# Altium integrated library NSC LDO.IntLib: 1202 symbols (part 27 of 27)
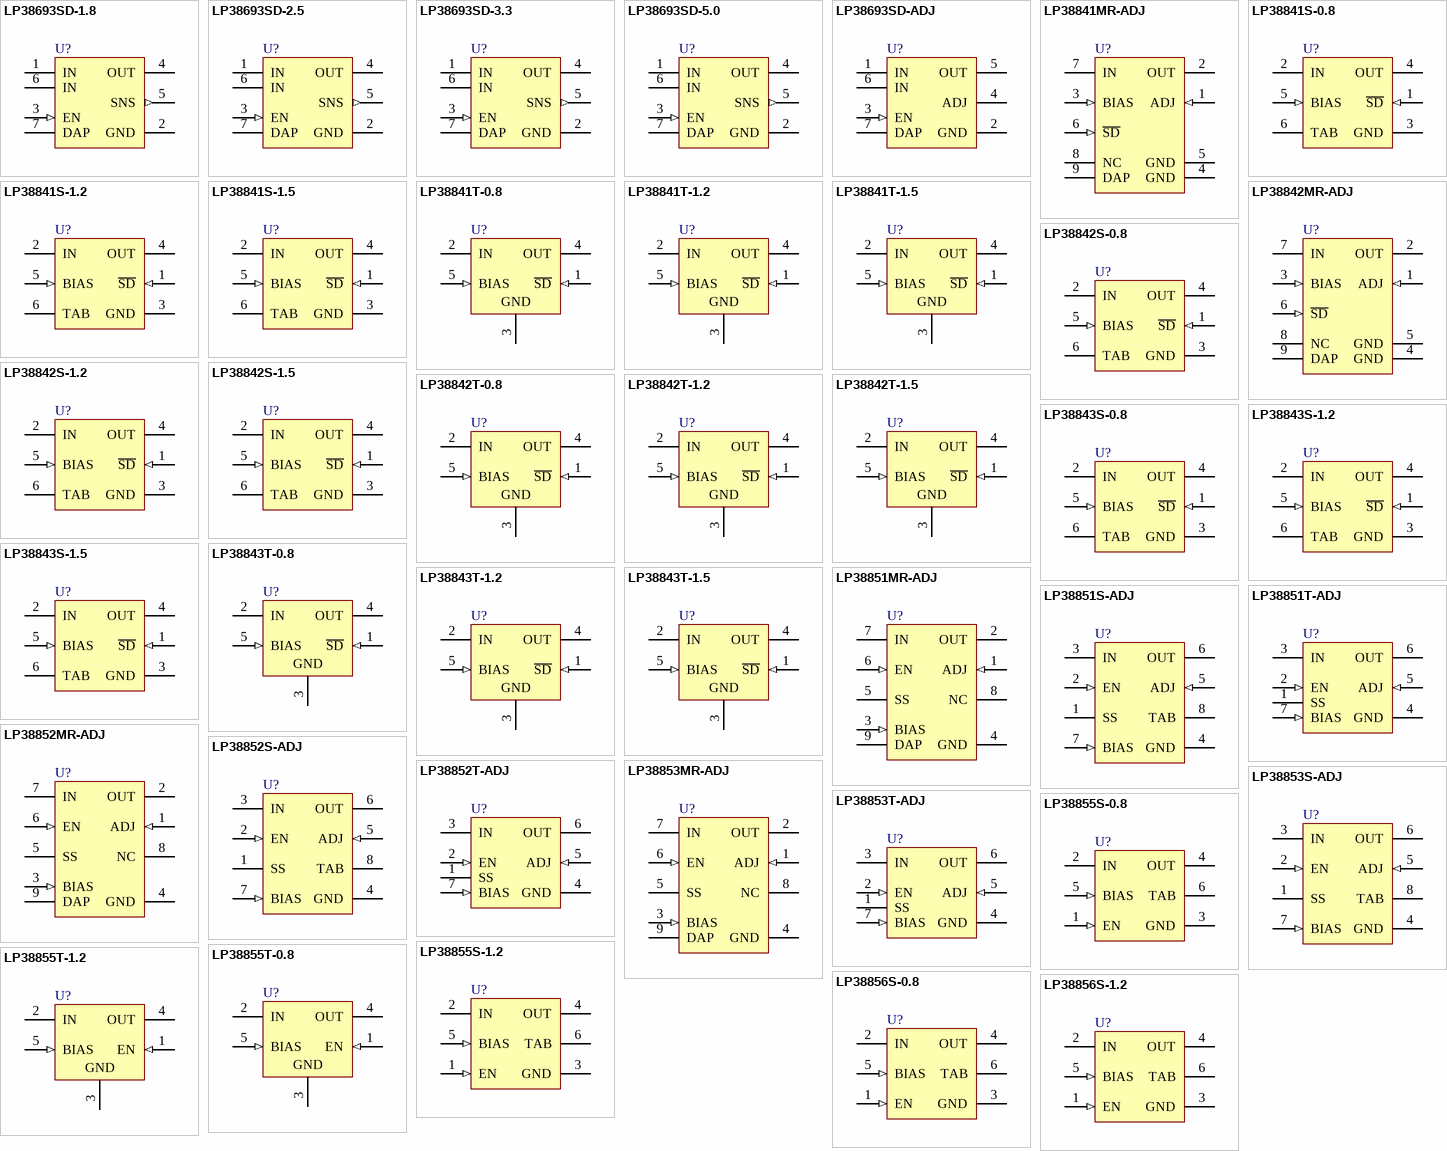
[diagram p56: symbols LP38693SD-1.8 to LP38856S-1.2]

## LP38841T-1.5
designator U?
0.8A Ultra Low Dropout Linear Regulators; PartNumber: LP38841T-1.5; Manufacturer: National Semiconductor; CompType: LDO IC; PackageTopMarking: NSUZXYTTE#*LP38841T*-1.5; Published: 4-Dec-2008; DatasheetVersion: Sep-2006; PackageVersion: revJ, Jan-1992; PackageReference: T05A; Publisher: Altium Limited; PackageDescription: TO-220, Molded, 5 Lead, Straight; RoHS: Y; PinCount: 5; DigiKeyPartNumber: LP38841T-1.5-ND; Code_JEDEC: TO-220-AB; ComponentLink1Description: LP38841 Datasheet; ComponentLink1URL: http://www.national.com/ds/LP/LP38841.pdf; ComponentLink2Description: LP38841 Web Page; ComponentLink2URL: http://www.national.com/pf/LP/LP38841.html; ComponentLink3Description: T05A Package Page; ComponentLink3URL: http://www.national.com/packaging/folders/t05a.html
footprint T05A (TO, Thru-Hole, Vertical, Heatsink Mounted; 5 In-Line Leads; Pitch 1.70 mm)
pins: 1 ~{SD} (in), 2 IN (power), 3 GND (power), 4 OUT (power), 5 BIAS (in)

## LP38842MR-ADJ
designator U?
1.5A Ultra Low Dropout Linear Regulators; PartNumber: LP38842MR-ADJ; Manufacturer: National Semiconductor; CompType: LDO IC; PackageTopMarking: NSXYTT*L38842*MRADJ; Published: 4-Dec-2008; DatasheetVersion: Feb-2005; PackageVersion: revB, Dec-2007; PackageReference: MRA08B; Publisher: Altium Limited; PackageDescription: Molded, PSOP .193 x .154 x .058in, 8 Lead, .050in Pitch, Large DAP; RoHS: Y; PinCount: 8; DigiKeyPartNumber: LP38842MR-ADJ-ND; Code_JEDEC: MS-012-AA; ComponentLink1Description: LP38842-ADJ Datasheet; ComponentLink1URL: http://www.national.com/ds/LP/LP38842-ADJ.pdf; ComponentLink2Description: LP38842-ADJ Web Page; ComponentLink2URL: http://www.national.com/pf/LP/LP38842-ADJ.html; ComponentLink3Description: MRA08B Package Page; ComponentLink3URL: http://www.national.com/packaging/folders/mra08b.html
footprint MRA08B_N (SOIC, 8-Leads, Body 4.9x3.9mm, Pitch 1.27mm, Exposed Pad, IPC Medium Density)
footprint MRA08B_L (SOIC, 8-Leads, Body 4.9x3.9mm, Pitch 1.27mm, Exposed Pad, IPC High Density)
footprint MRA08B_M (SOIC, 8-Leads, Body 4.9x3.9mm, Pitch 1.27mm, Exposed Pad, IPC Low Density)
pins: 1 ADJ (in), 2 OUT (power), 3 BIAS (in), 4 GND (power), 5 GND (power), 6 ~{SD} (in), 7 IN (power), 8 NC, 9 DAP (power)

## LP38842S-0.8
designator U?
1.5A Ultra Low Dropout Linear Regulators; PartNumber: LP38842S-0.8; Manufacturer: National Semiconductor; CompType: LDO IC; PackageTopMarking: NSUZXYTTE#*LP38842S*-0.8; Published: 4-Dec-2008; DatasheetVersion: Sep-2006; PackageVersion: revD, Apr-2005; PackageReference: TS5B; Publisher: Altium Limited; PackageDescription: TO-263, Molded, .400 x .390 x .180in, 5 Lead, .067in Pitch, Surface Mount; RoHS: Y; PinCount: 5; DigiKeyPartNumber: LP38842S-0.8-ND; Code_JEDEC: MO-169-AB; ComponentLink1Description: LP38842 Datasheet; ComponentLink1URL: http://www.national.com/ds/LP/LP38842.pdf; ComponentLink2Description: LP38842 Web Page; ComponentLink2URL: http://www.national.com/pf/LP/LP38842.html; ComponentLink3Description: TS5B Package Page; ComponentLink3URL: http://www.national.com/packaging/folders/ts5b.html
footprint TS5B_N (D2-PAK, 6-Leads, Body 8.6x10.2mm, Pitch 1.7mm, Lead Span 14.1mm, IPC Medium Density)
footprint TS5B_L (D2-PAK, 6-Leads, Body 8.6x10.2mm, Pitch 1.7mm, Lead Span 14.1mm, IPC High Density)
footprint TS5B_M (D2-PAK, 6-Leads, Body 8.6x10.2mm, Pitch 1.7mm, Lead Span 14.1mm, IPC Low Density)
pins: 1 ~{SD} (in), 2 IN (power), 3 GND (power), 4 OUT (power), 5 BIAS (in), 6 TAB (power)

## LP38842S-1.2
designator U?
1.5A Ultra Low Dropout Linear Regulators; PartNumber: LP38842S-1.2; Manufacturer: National Semiconductor; CompType: LDO IC; PackageTopMarking: NSUZXYTTE#*LP38842S*-1.2; Published: 4-Dec-2008; DatasheetVersion: Sep-2006; PackageVersion: revD, Apr-2005; PackageReference: TS5B; Publisher: Altium Limited; PackageDescription: TO-263, Molded, .400 x .390 x .180in, 5 Lead, .067in Pitch, Surface Mount; RoHS: Y; PinCount: 5; DigiKeyPartNumber: LP38842S-1.2-ND; Code_JEDEC: MO-169-AB; ComponentLink1Description: LP38842 Datasheet; ComponentLink1URL: http://www.national.com/ds/LP/LP38842.pdf; ComponentLink2Description: LP38842 Web Page; ComponentLink2URL: http://www.national.com/pf/LP/LP38842.html; ComponentLink3Description: TS5B Package Page; ComponentLink3URL: http://www.national.com/packaging/folders/ts5b.html
footprint TS5B_N (D2-PAK, 6-Leads, Body 8.6x10.2mm, Pitch 1.7mm, Lead Span 14.1mm, IPC Medium Density)
footprint TS5B_L (D2-PAK, 6-Leads, Body 8.6x10.2mm, Pitch 1.7mm, Lead Span 14.1mm, IPC High Density)
footprint TS5B_M (D2-PAK, 6-Leads, Body 8.6x10.2mm, Pitch 1.7mm, Lead Span 14.1mm, IPC Low Density)
pins: 1 ~{SD} (in), 2 IN (power), 3 GND (power), 4 OUT (power), 5 BIAS (in), 6 TAB (power)

## LP38842S-1.5
designator U?
1.5A Ultra Low Dropout Linear Regulators; PartNumber: LP38842S-1.5; Manufacturer: National Semiconductor; CompType: LDO IC; PackageTopMarking: NSUZXYTTE#*LP38842S*-1.5; Published: 4-Dec-2008; DatasheetVersion: Sep-2006; PackageVersion: revD, Apr-2005; PackageReference: TS5B; Publisher: Altium Limited; PackageDescription: TO-263, Molded, .400 x .390 x .180in, 5 Lead, .067in Pitch, Surface Mount; RoHS: Y; PinCount: 5; DigiKeyPartNumber: LP38842S-1.5-ND; Code_JEDEC: MO-169-AB; ComponentLink1Description: LP38842 Datasheet; ComponentLink1URL: http://www.national.com/ds/LP/LP38842.pdf; ComponentLink2Description: LP38842 Web Page; ComponentLink2URL: http://www.national.com/pf/LP/LP38842.html; ComponentLink3Description: TS5B Package Page; ComponentLink3URL: http://www.national.com/packaging/folders/ts5b.html
footprint TS5B_N (D2-PAK, 6-Leads, Body 8.6x10.2mm, Pitch 1.7mm, Lead Span 14.1mm, IPC Medium Density)
footprint TS5B_L (D2-PAK, 6-Leads, Body 8.6x10.2mm, Pitch 1.7mm, Lead Span 14.1mm, IPC High Density)
footprint TS5B_M (D2-PAK, 6-Leads, Body 8.6x10.2mm, Pitch 1.7mm, Lead Span 14.1mm, IPC Low Density)
pins: 1 ~{SD} (in), 2 IN (power), 3 GND (power), 4 OUT (power), 5 BIAS (in), 6 TAB (power)

## LP38842T-0.8
designator U?
1.5A Ultra Low Dropout Linear Regulators; PartNumber: LP38842T-0.8; Manufacturer: National Semiconductor; CompType: LDO IC; PackageTopMarking: NSUZXYTTE#*LP38842T*-0.8; Published: 4-Dec-2008; DatasheetVersion: Sep-2006; PackageVersion: revJ, Jan-1992; PackageReference: T05A; Publisher: Altium Limited; PackageDescription: TO-220, Molded, 5 Lead, Straight; RoHS: Y; PinCount: 5; DigiKeyPartNumber: LP38842T-0.8-ND; Code_JEDEC: TO-220-AB; ComponentLink1Description: LP38842 Datasheet; ComponentLink1URL: http://www.national.com/ds/LP/LP38842.pdf; ComponentLink2Description: LP38842 Web Page; ComponentLink2URL: http://www.national.com/pf/LP/LP38842.html; ComponentLink3Description: T05A Package Page; ComponentLink3URL: http://www.national.com/packaging/folders/t05a.html
footprint T05A (TO, Thru-Hole, Vertical, Heatsink Mounted; 5 In-Line Leads; Pitch 1.70 mm)
pins: 1 ~{SD} (in), 2 IN (power), 3 GND (power), 4 OUT (power), 5 BIAS (in)

## LP38842T-1.2
designator U?
1.5A Ultra Low Dropout Linear Regulators; PartNumber: LP38842T-1.2; Manufacturer: National Semiconductor; CompType: LDO IC; PackageTopMarking: NSUZXYTTE#*LP38842T*-1.2; Published: 4-Dec-2008; DatasheetVersion: Sep-2006; PackageVersion: revJ, Jan-1992; PackageReference: T05A; Publisher: Altium Limited; PackageDescription: TO-220, Molded, 5 Lead, Straight; RoHS: Y; PinCount: 5; DigiKeyPartNumber: LP38842T-1.2-ND; Code_JEDEC: TO-220-AB; ComponentLink1Description: LP38842 Datasheet; ComponentLink1URL: http://www.national.com/ds/LP/LP38842.pdf; ComponentLink2Description: LP38842 Web Page; ComponentLink2URL: http://www.national.com/pf/LP/LP38842.html; ComponentLink3Description: T05A Package Page; ComponentLink3URL: http://www.national.com/packaging/folders/t05a.html
footprint T05A (TO, Thru-Hole, Vertical, Heatsink Mounted; 5 In-Line Leads; Pitch 1.70 mm)
pins: 1 ~{SD} (in), 2 IN (power), 3 GND (power), 4 OUT (power), 5 BIAS (in)

## LP38842T-1.5
designator U?
1.5A Ultra Low Dropout Linear Regulators; PartNumber: LP38842T-1.5; Manufacturer: National Semiconductor; CompType: LDO IC; PackageTopMarking: NSUZXYTTE#*LP38842T*-1.5; Published: 4-Dec-2008; DatasheetVersion: Sep-2006; PackageVersion: revJ, Jan-1992; PackageReference: T05A; Publisher: Altium Limited; PackageDescription: TO-220, Molded, 5 Lead, Straight; RoHS: Y; PinCount: 5; DigiKeyPartNumber: LP38842T-1.5-ND; Code_JEDEC: TO-220-AB; ComponentLink1Description: LP38842 Datasheet; ComponentLink1URL: http://www.national.com/ds/LP/LP38842.pdf; ComponentLink2Description: LP38842 Web Page; ComponentLink2URL: http://www.national.com/pf/LP/LP38842.html; ComponentLink3Description: T05A Package Page; ComponentLink3URL: http://www.national.com/packaging/folders/t05a.html
footprint T05A (TO, Thru-Hole, Vertical, Heatsink Mounted; 5 In-Line Leads; Pitch 1.70 mm)
pins: 1 ~{SD} (in), 2 IN (power), 3 GND (power), 4 OUT (power), 5 BIAS (in)

## LP38843S-0.8
designator U?
3A Fast-Response Ultra Low Dropout Linear Regulators; PartNumber: LP38843S-0.8; Manufacturer: National Semiconductor; CompType: LDO IC; PackageTopMarking: NSUZXYTTE#*LP38843S*-0.8; Published: 4-Dec-2008; DatasheetVersion: Sep-2006; PackageVersion: revD, Apr-2005; PackageReference: TS5B; Publisher: Altium Limited; PackageDescription: TO-263, Molded, .400 x .390 x .180in, 5 Lead, .067in Pitch, Surface Mount; RoHS: Y; PinCount: 5; DigiKeyPartNumber: LP38843S-0.8-ND; Code_JEDEC: MO-169-AB; ComponentLink1Description: LP38843 Datasheet; ComponentLink1URL: http://www.national.com/ds/LP/LP38843.pdf; ComponentLink2Description: LP38843 Web Page; ComponentLink2URL: http://www.national.com/pf/LP/LP38843.html; ComponentLink3Description: TS5B Package Page; ComponentLink3URL: http://www.national.com/packaging/folders/ts5b.html
footprint TS5B_N (D2-PAK, 6-Leads, Body 8.6x10.2mm, Pitch 1.7mm, Lead Span 14.1mm, IPC Medium Density)
footprint TS5B_L (D2-PAK, 6-Leads, Body 8.6x10.2mm, Pitch 1.7mm, Lead Span 14.1mm, IPC High Density)
footprint TS5B_M (D2-PAK, 6-Leads, Body 8.6x10.2mm, Pitch 1.7mm, Lead Span 14.1mm, IPC Low Density)
pins: 1 ~{SD} (in), 2 IN (power), 3 GND (power), 4 OUT (power), 5 BIAS (in), 6 TAB (power)

## LP38843S-1.2
designator U?
3A Fast-Response Ultra Low Dropout Linear Regulators; PartNumber: LP38843S-1.2; Manufacturer: National Semiconductor; CompType: LDO IC; PackageTopMarking: NSUZXYTTE#*LP38843S*-1.2; Published: 4-Dec-2008; DatasheetVersion: Sep-2006; PackageVersion: revD, Apr-2005; PackageReference: TS5B; Publisher: Altium Limited; PackageDescription: TO-263, Molded, .400 x .390 x .180in, 5 Lead, .067in Pitch, Surface Mount; RoHS: O; PinCount: 5; DigiKeyPartNumber: LP38843S-1.2-ND; Code_JEDEC: MO-169-AB; ComponentLink1Description: LP38843 Datasheet; ComponentLink1URL: http://www.national.com/ds/LP/LP38843.pdf; ComponentLink2Description: LP38843 Web Page; ComponentLink2URL: http://www.national.com/pf/LP/LP38843.html; ComponentLink3Description: TS5B Package Page; ComponentLink3URL: http://www.national.com/packaging/folders/ts5b.html
footprint TS5B_N (D2-PAK, 6-Leads, Body 8.6x10.2mm, Pitch 1.7mm, Lead Span 14.1mm, IPC Medium Density)
footprint TS5B_L (D2-PAK, 6-Leads, Body 8.6x10.2mm, Pitch 1.7mm, Lead Span 14.1mm, IPC High Density)
footprint TS5B_M (D2-PAK, 6-Leads, Body 8.6x10.2mm, Pitch 1.7mm, Lead Span 14.1mm, IPC Low Density)
pins: 1 ~{SD} (in), 2 IN (power), 3 GND (power), 4 OUT (power), 5 BIAS (in), 6 TAB (power)

## LP38843S-1.5
designator U?
3A Fast-Response Ultra Low Dropout Linear Regulators; PartNumber: LP38843S-1.5; Manufacturer: National Semiconductor; CompType: LDO IC; PackageTopMarking: NSUZXYTTE#*LP38843S*-1.5; Published: 4-Dec-2008; DatasheetVersion: Sep-2006; PackageVersion: revD, Apr-2005; PackageReference: TS5B; Publisher: Altium Limited; PackageDescription: TO-263, Molded, .400 x .390 x .180in, 5 Lead, .067in Pitch, Surface Mount; RoHS: Y; PinCount: 5; DigiKeyPartNumber: LP38843S-1.5-ND; Code_JEDEC: MO-169-AB; ComponentLink1Description: LP38843 Datasheet; ComponentLink1URL: http://www.national.com/ds/LP/LP38843.pdf; ComponentLink2Description: LP38843 Web Page; ComponentLink2URL: http://www.national.com/pf/LP/LP38843.html; ComponentLink3Description: TS5B Package Page; ComponentLink3URL: http://www.national.com/packaging/folders/ts5b.html
footprint TS5B_N (D2-PAK, 6-Leads, Body 8.6x10.2mm, Pitch 1.7mm, Lead Span 14.1mm, IPC Medium Density)
footprint TS5B_L (D2-PAK, 6-Leads, Body 8.6x10.2mm, Pitch 1.7mm, Lead Span 14.1mm, IPC High Density)
footprint TS5B_M (D2-PAK, 6-Leads, Body 8.6x10.2mm, Pitch 1.7mm, Lead Span 14.1mm, IPC Low Density)
pins: 1 ~{SD} (in), 2 IN (power), 3 GND (power), 4 OUT (power), 5 BIAS (in), 6 TAB (power)

## LP38843T-0.8
designator U?
3A Fast-Response Ultra Low Dropout Linear Regulators; PartNumber: LP38843T-0.8; Manufacturer: National Semiconductor; CompType: LDO IC; PackageTopMarking: NSUZXYTTE#*LP38843T*-0.8; Published: 4-Dec-2008; DatasheetVersion: Sep-2006; PackageVersion: revJ, Jan-1992; PackageReference: T05A; Publisher: Altium Limited; PackageDescription: TO-220, Molded, 5 Lead, Straight; RoHS: Y; PinCount: 5; DigiKeyPartNumber: LP38843T-0.8-ND; Code_JEDEC: TO-220-AB; ComponentLink1Description: LP38843 Datasheet; ComponentLink1URL: http://www.national.com/ds/LP/LP38843.pdf; ComponentLink2Description: LP38843 Web Page; ComponentLink2URL: http://www.national.com/pf/LP/LP38843.html; ComponentLink3Description: T05A Package Page; ComponentLink3URL: http://www.national.com/packaging/folders/t05a.html
footprint T05A (TO, Thru-Hole, Vertical, Heatsink Mounted; 5 In-Line Leads; Pitch 1.70 mm)
pins: 1 ~{SD} (in), 2 IN (power), 3 GND (power), 4 OUT (power), 5 BIAS (in)

## LP38843T-1.2
designator U?
3A Fast-Response Ultra Low Dropout Linear Regulators; PartNumber: LP38843T-1.2; Manufacturer: National Semiconductor; CompType: LDO IC; PackageTopMarking: NSUZXYTTE#*LP38843T*-1.2; Published: 4-Dec-2008; DatasheetVersion: Sep-2006; PackageVersion: revJ, Jan-1992; PackageReference: T05A; Publisher: Altium Limited; PackageDescription: TO-220, Molded, 5 Lead, Straight; RoHS: Y; PinCount: 5; DigiKeyPartNumber: LP38843T-1.2-ND; Code_JEDEC: TO-220-AB; ComponentLink1Description: LP38843 Datasheet; ComponentLink1URL: http://www.national.com/ds/LP/LP38843.pdf; ComponentLink2Description: LP38843 Web Page; ComponentLink2URL: http://www.national.com/pf/LP/LP38843.html; ComponentLink3Description: T05A Package Page; ComponentLink3URL: http://www.national.com/packaging/folders/t05a.html
footprint T05A (TO, Thru-Hole, Vertical, Heatsink Mounted; 5 In-Line Leads; Pitch 1.70 mm)
pins: 1 ~{SD} (in), 2 IN (power), 3 GND (power), 4 OUT (power), 5 BIAS (in)

## LP38843T-1.5
designator U?
3A Fast-Response Ultra Low Dropout Linear Regulators; PartNumber: LP38843T-1.5; Manufacturer: National Semiconductor; CompType: LDO IC; PackageTopMarking: NSUZXYTTE#*LP38843T*-1.5; Published: 4-Dec-2008; DatasheetVersion: Sep-2006; PackageVersion: revJ, Jan-1992; PackageReference: T05A; Publisher: Altium Limited; PackageDescription: TO-220, Molded, 5 Lead, Straight; RoHS: Y; PinCount: 5; DigiKeyPartNumber: LP38843T-1.5-ND; Code_JEDEC: TO-220-AB; ComponentLink1Description: LP38843 Datasheet; ComponentLink1URL: http://www.national.com/ds/LP/LP38843.pdf; ComponentLink2Description: LP38843 Web Page; ComponentLink2URL: http://www.national.com/pf/LP/LP38843.html; ComponentLink3Description: T05A Package Page; ComponentLink3URL: http://www.national.com/packaging/folders/t05a.html
footprint T05A (TO, Thru-Hole, Vertical, Heatsink Mounted; 5 In-Line Leads; Pitch 1.70 mm)
pins: 1 ~{SD} (in), 2 IN (power), 3 GND (power), 4 OUT (power), 5 BIAS (in)

## LP38851MR-ADJ
designator U?
800 mA Fast-Response High-Accuracy Adjustable LDO Linear Regulator with Enable and Soft-Start; PartNumber: LP38851MR-ADJ; Manufacturer: National Semiconductor; CompType: LDO IC; PackageTopMarking: NSXYTT*L38851*MRADJ; Published: 4-Dec-2008; DatasheetVersion: Jun-2007; PackageVersion: revB, Dec-2007; PackageReference: MRA08B; Publisher: Altium Limited; PackageDescription: Molded, PSOP .193 x .154 x .058in, 8 Lead, .050in Pitch, Large DAP; RoHS: Y; PinCount: 8; DigiKeyPartNumber: LP38851MR-ADJ-ND; Code_JEDEC: MS-012-AA; ComponentLink1Description: LP38851 Datasheet; ComponentLink1URL: http://www.national.com/ds/LP/LP38851.pdf; ComponentLink2Description: LP38851 Web Page; ComponentLink2URL: http://www.national.com/pf/LP/LP38851.html; ComponentLink3Description: MRA08B Package Page; ComponentLink3URL: http://www.national.com/packaging/folders/mra08b.html
footprint MRA08B_N (SOIC, 8-Leads, Body 4.9x3.9mm, Pitch 1.27mm, Exposed Pad, IPC Medium Density)
footprint MRA08B_L (SOIC, 8-Leads, Body 4.9x3.9mm, Pitch 1.27mm, Exposed Pad, IPC High Density)
footprint MRA08B_M (SOIC, 8-Leads, Body 4.9x3.9mm, Pitch 1.27mm, Exposed Pad, IPC Low Density)
pins: 1 ADJ (in), 2 OUT (power), 3 BIAS (in), 4 GND (power), 5 SS, 6 EN (in), 7 IN (power), 8 NC, 9 DAP (power)

## LP38851S-ADJ
designator U?
800 mA Fast-Response High-Accuracy Adjustable LDO Linear Regulator with Enable and Soft-Start; PartNumber: LP38851S-ADJ; Manufacturer: National Semiconductor; CompType: LDO IC; PackageTopMarking: NSUZXYTTE#*LP38851S*-ADJ; Published: 4-Dec-2008; DatasheetVersion: Jun-2007; PackageVersion: revE, Jul-2003; PackageReference: TS7B; Publisher: Altium Limited; PackageDescription: TO-263, Molded, .400 x .390 x .180in Body, 7 Lead, .050in Pitch, Surface Mount; RoHS: Y; PinCount: 7; DigiKeyPartNumber: LP38851S-ADJ-ND; Code_JEDEC: MO-169-AC; ComponentLink1Description: LP38851 Datasheet; ComponentLink1URL: http://www.national.com/ds/LP/LP38851.pdf; ComponentLink2Description: LP38851 Web Page; ComponentLink2URL: http://www.national.com/pf/LP/LP38851.html; ComponentLink3Description: TS7B Package Page; ComponentLink3URL: http://www.national.com/packaging/folders/ts7b.html
footprint TS7B_N (D2-PAK, 8-Leads, Body 8.6x10.2mm, Pitch 1.27mm, Lead Span 14.1mm, IPC Medium Density)
footprint TS7B_L (D2-PAK, 8-Leads, Body 8.6x10.2mm, Pitch 1.27mm, Lead Span 14.1mm, IPC High Density)
footprint TS7B_M (D2-PAK, 8-Leads, Body 8.6x10.2mm, Pitch 1.27mm, Lead Span 14.1mm, IPC Low Density)
pins: 1 SS, 2 EN (in), 3 IN (power), 4 GND (power), 5 ADJ (in), 6 OUT (power), 7 BIAS (in), 8 TAB (power)

## LP38851T-ADJ
designator U?
800 mA Fast-Response High-Accuracy Adjustable LDO Linear Regulator with Enable and Soft-Start; PartNumber: LP38851T-ADJ; Manufacturer: National Semiconductor; CompType: LDO IC; PackageTopMarking: NSUZXYTTE#*LP38851T*-ADJ; Published: 4-Dec-2008; DatasheetVersion: Jun-2007; PackageVersion: revC, Apr-1999; PackageReference: TA07B; Publisher: Altium Limited; PackageDescription: TO-220, Molded, .400 x .590 x .180in Body, 7 Lead, .050in Pitch, Staggered; RoHS: Y; PinCount: 7; DigiKeyPartNumber: LP38851T-ADJ-ND; Code_JEDEC: TO-220-AB; ComponentLink1Description: LP38851 Datasheet; ComponentLink1URL: http://www.national.com/ds/LP/LP38851.pdf; ComponentLink2Description: LP38851 Web Page; ComponentLink2URL: http://www.national.com/pf/LP/LP38851.html; ComponentLink3Description: TA07B Package Page; ComponentLink3URL: http://www.national.com/packaging/folders/ta07b.html
footprint TA07B (TO, Thru-Hole, Vertical, Heatsink Mounted; 7 Bent Staggered Leads; Pitch 1.27 mm)
pins: 1 SS, 2 EN (in), 3 IN (power), 4 GND (power), 5 ADJ (in), 6 OUT (power), 7 BIAS (in)

## LP38852MR-ADJ
designator U?
1.5A Fast-Response High-Accuracy Adjustable LDO Linear Regulator with Enable and Soft-Start; PartNumber: LP38852MR-ADJ; Manufacturer: National Semiconductor; CompType: LDO IC; PackageTopMarking: NSXYTT*L38852*MRADJ; Published: 4-Dec-2008; DatasheetVersion: Jan-2007; PackageVersion: revB, Dec-2007; PackageReference: MRA08B; Publisher: Altium Limited; PackageDescription: Molded, PSOP .193 x .154 x .058in, 8 Lead, .050in Pitch, Large DAP; RoHS: Y; PinCount: 8; DigiKeyPartNumber: LP38852MR-ADJ-ND; Code_JEDEC: MS-012-AA; ComponentLink1Description: LP38852 Datasheet; ComponentLink1URL: http://www.national.com/ds/LP/LP38852.pdf; ComponentLink2Description: LP38852 Web Page; ComponentLink2URL: http://www.national.com/pf/LP/LP38852.html; ComponentLink3Description: MRA08B Package Page; ComponentLink3URL: http://www.national.com/packaging/folders/mra08b.html
footprint MRA08B_N (SOIC, 8-Leads, Body 4.9x3.9mm, Pitch 1.27mm, Exposed Pad, IPC Medium Density)
footprint MRA08B_L (SOIC, 8-Leads, Body 4.9x3.9mm, Pitch 1.27mm, Exposed Pad, IPC High Density)
footprint MRA08B_M (SOIC, 8-Leads, Body 4.9x3.9mm, Pitch 1.27mm, Exposed Pad, IPC Low Density)
pins: 1 ADJ (in), 2 OUT (power), 3 BIAS (in), 4 GND (power), 5 SS, 6 EN (in), 7 IN (power), 8 NC, 9 DAP (power)

## LP38852S-ADJ
designator U?
1.5A Fast-Response High-Accuracy Adjustable LDO Linear Regulator with Enable and Soft-Start; PartNumber: LP38852S-ADJ; Manufacturer: National Semiconductor; CompType: LDO IC; PackageTopMarking: NSUZXYTTE#*LP38852S*-ADJ; Published: 4-Dec-2008; DatasheetVersion: Jan-2007; PackageVersion: revE, Jul-2003; PackageReference: TS7B; Publisher: Altium Limited; PackageDescription: TO-263, Molded, .400 x .390 x .180in Body, 7 Lead, .050in Pitch, Surface Mount; RoHS: Y; PinCount: 7; DigiKeyPartNumber: LP38852S-ADJ-ND; Code_JEDEC: MO-169-AC; ComponentLink1Description: LP38852 Datasheet; ComponentLink1URL: http://www.national.com/ds/LP/LP38852.pdf; ComponentLink2Description: LP38852 Web Page; ComponentLink2URL: http://www.national.com/pf/LP/LP38852.html; ComponentLink3Description: TS7B Package Page; ComponentLink3URL: http://www.national.com/packaging/folders/ts7b.html
footprint TS7B_N (D2-PAK, 8-Leads, Body 8.6x10.2mm, Pitch 1.27mm, Lead Span 14.1mm, IPC Medium Density)
footprint TS7B_L (D2-PAK, 8-Leads, Body 8.6x10.2mm, Pitch 1.27mm, Lead Span 14.1mm, IPC High Density)
footprint TS7B_M (D2-PAK, 8-Leads, Body 8.6x10.2mm, Pitch 1.27mm, Lead Span 14.1mm, IPC Low Density)
pins: 1 SS, 2 EN (in), 3 IN (power), 4 GND (power), 5 ADJ (in), 6 OUT (power), 7 BIAS (in), 8 TAB (power)

## LP38852T-ADJ
designator U?
1.5A Fast-Response High-Accuracy Adjustable LDO Linear Regulator with Enable and Soft-Start; PartNumber: LP38852T-ADJ; Manufacturer: National Semiconductor; CompType: LDO IC; PackageTopMarking: NSUZXYTTE#*LP38852T*-ADJ; Published: 4-Dec-2008; DatasheetVersion: Jan-2007; PackageVersion: revA, Sep-1992; PackageReference: TA07A; Publisher: Altium Limited; PackageDescription: TO-220, Molded, 7 Lead, Straight; RoHS: Y; PinCount: 7; DigiKeyPartNumber: LP38852T-ADJ-ND; ComponentLink1Description: LP38852 Datasheet; ComponentLink1URL: http://www.national.com/ds/LP/LP38852.pdf; ComponentLink2Description: LP38852 Web Page; ComponentLink2URL: http://www.national.com/pf/LP/LP38852.html; ComponentLink3Description: TA07A Package Page; ComponentLink3URL: http://www.national.com/packaging/folders/ta07a.html
footprint TA07A (TO, Thru-Hole, Vertical, Heatsink Mounted; 7 In-Line Leads; Pitch 1.27 mm)
pins: 1 SS, 2 EN (in), 3 IN (power), 4 GND (power), 5 ADJ (in), 6 OUT (power), 7 BIAS (in)

## LP38853MR-ADJ
designator U?
3A Fast-Response High-Accuracy Adjustable LDO Linear Regulator with Enable and Soft-Start; PartNumber: LP38853MR-ADJ; Manufacturer: National Semiconductor; CompType: LDO IC; PackageTopMarking: NSXYTT*L38853*MRADJ; Published: 4-Dec-2008; DatasheetVersion: Feb-2008; PackageVersion: revB, Dec-2007; PackageReference: MRA08B; Publisher: Altium Limited; PackageDescription: Molded, PSOP .193 x .154 x .058in, 8 Lead, .050in Pitch, Large DAP; RoHS: Y; PinCount: 8; DigiKeyPartNumber: LP38853MR-ADJ-ND; Code_JEDEC: MS-012-AA; ComponentLink1Description: LP38853 Datasheet; ComponentLink1URL: http://www.national.com/ds/LP/LP38853.pdf; ComponentLink2Description: LP38853 Web Page; ComponentLink2URL: http://www.national.com/pf/LP/LP38853.html; ComponentLink3Description: MRA08B Package Page; ComponentLink3URL: http://www.national.com/packaging/folders/mra08b.html
footprint MRA08B_N (SOIC, 8-Leads, Body 4.9x3.9mm, Pitch 1.27mm, Exposed Pad, IPC Medium Density)
footprint MRA08B_L (SOIC, 8-Leads, Body 4.9x3.9mm, Pitch 1.27mm, Exposed Pad, IPC High Density)
footprint MRA08B_M (SOIC, 8-Leads, Body 4.9x3.9mm, Pitch 1.27mm, Exposed Pad, IPC Low Density)
pins: 1 ADJ (in), 2 OUT (power), 3 BIAS (in), 4 GND (power), 5 SS, 6 EN (in), 7 IN (power), 8 NC, 9 DAP (power)

## LP38853S-ADJ
designator U?
3A Fast-Response High-Accuracy Adjustable LDO Linear Regulator with Enable and Soft-Start; PartNumber: LP38853S-ADJ; Manufacturer: National Semiconductor; CompType: LDO IC; PackageTopMarking: NSUZXYTTE#*LP38853S*ADJ; Published: 4-Dec-2008; DatasheetVersion: Feb-2008; PackageVersion: revE, Jul-2003; PackageReference: TS7B; Publisher: Altium Limited; PackageDescription: TO-263, Molded, .400 x .390 x .180in Body, 7 Lead, .050in Pitch, Surface Mount; RoHS: Y; PinCount: 7; DigiKeyPartNumber: LP38853S-ADJ-ND; Code_JEDEC: MO-169-AC; ComponentLink1Description: LP38853 Datasheet; ComponentLink1URL: http://www.national.com/ds/LP/LP38853.pdf; ComponentLink2Description: LP38853 Web Page; ComponentLink2URL: http://www.national.com/pf/LP/LP38853.html; ComponentLink3Description: TS7B Package Page; ComponentLink3URL: http://www.national.com/packaging/folders/ts7b.html
footprint TS7B_N (D2-PAK, 8-Leads, Body 8.6x10.2mm, Pitch 1.27mm, Lead Span 14.1mm, IPC Medium Density)
footprint TS7B_L (D2-PAK, 8-Leads, Body 8.6x10.2mm, Pitch 1.27mm, Lead Span 14.1mm, IPC High Density)
footprint TS7B_M (D2-PAK, 8-Leads, Body 8.6x10.2mm, Pitch 1.27mm, Lead Span 14.1mm, IPC Low Density)
pins: 1 SS, 2 EN (in), 3 IN (power), 4 GND (power), 5 ADJ (in), 6 OUT (power), 7 BIAS (in), 8 TAB (power)

## LP38853T-ADJ
designator U?
3A Fast-Response High-Accuracy Adjustable LDO Linear Regulator with Enable and Soft-Start; PartNumber: LP38853T-ADJ; Manufacturer: National Semiconductor; CompType: LDO IC; PackageTopMarking: NSUZXYTTE#*LP38853T*ADJ; Published: 4-Dec-2008; DatasheetVersion: Feb-2008; PackageVersion: revC, Apr-1999; PackageReference: TA07B; Publisher: Altium Limited; PackageDescription: TO-220, Molded, .400 x .590 x .180in Body, 7 Lead, .050in Pitch, Staggered; RoHS: Y; PinCount: 7; DigiKeyPartNumber: LP38853T-ADJ-ND; Code_JEDEC: TO-220-AB; ComponentLink1Description: LP38853 Datasheet; ComponentLink1URL: http://www.national.com/ds/LP/LP38853.pdf; ComponentLink2Description: LP38853 Web Page; ComponentLink2URL: http://www.national.com/pf/LP/LP38853.html; ComponentLink3Description: TA07B Package Page; ComponentLink3URL: http://www.national.com/packaging/folders/ta07b.html
footprint TA07B (TO, Thru-Hole, Vertical, Heatsink Mounted; 7 Bent Staggered Leads; Pitch 1.27 mm)
pins: 1 SS, 2 EN (in), 3 IN (power), 4 GND (power), 5 ADJ (in), 6 OUT (power), 7 BIAS (in)

## LP38855S-0.8
designator U?
1.5A Fast-Response High-Accuracy LDO Linear Regulator with Enable; PartNumber: LP38855S-0.8; Manufacturer: National Semiconductor; CompType: LDO IC; PackageTopMarking: NSUZXYTTE#*LP38855S*-0.8; Published: 4-Dec-2008; DatasheetVersion: Dec-2006; PackageVersion: revD, Apr-2005; PackageReference: TS5B; Publisher: Altium Limited; PackageDescription: TO-263, Molded, .400 x .390 x .180in, 5 Lead, .067in Pitch, Surface Mount; RoHS: Y; PinCount: 5; DigiKeyPartNumber: LP38855S-0.8-ND; Code_JEDEC: MO-169-AB; ComponentLink1Description: LP38855 Datasheet; ComponentLink1URL: http://www.national.com/ds/LP/LP38855.pdf; ComponentLink2Description: LP38855 Web Page; ComponentLink2URL: http://www.national.com/pf/LP/LP38855.html; ComponentLink3Description: TS5B Package Page; ComponentLink3URL: http://www.national.com/packaging/folders/ts5b.html
footprint TS5B_N (D2-PAK, 6-Leads, Body 8.6x10.2mm, Pitch 1.7mm, Lead Span 14.1mm, IPC Medium Density)
footprint TS5B_L (D2-PAK, 6-Leads, Body 8.6x10.2mm, Pitch 1.7mm, Lead Span 14.1mm, IPC High Density)
footprint TS5B_M (D2-PAK, 6-Leads, Body 8.6x10.2mm, Pitch 1.7mm, Lead Span 14.1mm, IPC Low Density)
pins: 1 EN (in), 2 IN (power), 3 GND (power), 4 OUT (power), 5 BIAS (in), 6 TAB (power)

## LP38855S-1.2
designator U?
1.5A Fast-Response High-Accuracy LDO Linear Regulator with Enable; PartNumber: LP38855S-1.2; Manufacturer: National Semiconductor; CompType: LDO IC; PackageTopMarking: NSUZXYTTE#*LP38855S*-1.2; Published: 4-Dec-2008; DatasheetVersion: Dec-2006; PackageVersion: revD, Apr-2005; PackageReference: TS5B; Publisher: Altium Limited; PackageDescription: TO-263, Molded, .400 x .390 x .180in, 5 Lead, .067in Pitch, Surface Mount; RoHS: Y; PinCount: 5; DigiKeyPartNumber: LP38855S-1.2-ND; Code_JEDEC: MO-169-AB; ComponentLink1Description: LP38855 Datasheet; ComponentLink1URL: http://www.national.com/ds/LP/LP38855.pdf; ComponentLink2Description: LP38855 Web Page; ComponentLink2URL: http://www.national.com/pf/LP/LP38855.html; ComponentLink3Description: TS5B Package Page; ComponentLink3URL: http://www.national.com/packaging/folders/ts5b.html
footprint TS5B_N (D2-PAK, 6-Leads, Body 8.6x10.2mm, Pitch 1.7mm, Lead Span 14.1mm, IPC Medium Density)
footprint TS5B_L (D2-PAK, 6-Leads, Body 8.6x10.2mm, Pitch 1.7mm, Lead Span 14.1mm, IPC High Density)
footprint TS5B_M (D2-PAK, 6-Leads, Body 8.6x10.2mm, Pitch 1.7mm, Lead Span 14.1mm, IPC Low Density)
pins: 1 EN (in), 2 IN (power), 3 GND (power), 4 OUT (power), 5 BIAS (in), 6 TAB (power)

## LP38855T-0.8
designator U?
1.5A Fast-Response High-Accuracy LDO Linear Regulator with Enable; PartNumber: LP38855T-0.8; Manufacturer: National Semiconductor; CompType: LDO IC; PackageTopMarking: NSUZXYTTE#*LP38855T*-0.8; Published: 4-Dec-2008; DatasheetVersion: Dec-2006; PackageVersion: revA, Oct-1989; PackageReference: T05D; Publisher: Altium Limited; PackageDescription: TO-220, Molded, Stagger Bend, 5 Lead; RoHS: Y; PinCount: 5; DigiKeyPartNumber: LP38855T-0.8-ND; ComponentLink1Description: LP38855 Datasheet; ComponentLink1URL: http://www.national.com/ds/LP/LP38855.pdf; ComponentLink2Description: LP38855 Web Page; ComponentLink2URL: http://www.national.com/pf/LP/LP38855.html; ComponentLink3Description: T05D Package Page; ComponentLink3URL: http://www.national.com/packaging/folders/t05d.html
footprint T05D (TO, Thru-Hole, Vertical, Heatsink Mounted; 5 Bent Staggered Leads; Pitch 1.7 mm)
pins: 1 EN (in), 2 IN (power), 3 GND (power), 4 OUT (power), 5 BIAS (in)

## LP38855T-1.2
designator U?
1.5A Fast-Response High-Accuracy LDO Linear Regulator with Enable; PartNumber: LP38855T-1.2; Manufacturer: National Semiconductor; CompType: LDO IC; PackageTopMarking: NSUZXYTTE#*LP38855T*-1.2; Published: 4-Dec-2008; DatasheetVersion: Dec-2006; PackageVersion: revA, Oct-1989; PackageReference: T05D; Publisher: Altium Limited; PackageDescription: TO-220, Molded, Stagger Bend, 5 Lead; RoHS: Y; PinCount: 5; DigiKeyPartNumber: LP38855T-1.2-ND; ComponentLink1Description: LP38855 Datasheet; ComponentLink1URL: http://www.national.com/ds/LP/LP38855.pdf; ComponentLink2Description: LP38855 Web Page; ComponentLink2URL: http://www.national.com/pf/LP/LP38855.html; ComponentLink3Description: T05D Package Page; ComponentLink3URL: http://www.national.com/packaging/folders/t05d.html
footprint T05D (TO, Thru-Hole, Vertical, Heatsink Mounted; 5 Bent Staggered Leads; Pitch 1.7 mm)
pins: 1 EN (in), 2 IN (power), 3 GND (power), 4 OUT (power), 5 BIAS (in)

## LP38856S-0.8
designator U?
3A Fast-Response High-Accuracy LDO Linear Regulator with Enable; PartNumber: LP38856S-0.8; Manufacturer: National Semiconductor; CompType: LDO IC; PackageTopMarking: NSUZXYTTE#*LP38856S*0.8; Published: 4-Dec-2008; DatasheetVersion: Dec-2006; PackageVersion: revD, Apr-2005; PackageReference: TS5B; Publisher: Altium Limited; PackageDescription: TO-263, Molded, .400 x .390 x .180in, 5 Lead, .067in Pitch, Surface Mount; RoHS: Y; PinCount: 5; DigiKeyPartNumber: LP38856S-0.8-ND; Code_JEDEC: MO-169-AB; ComponentLink1Description: LP38856 Datasheet; ComponentLink1URL: http://www.national.com/ds/LP/LP38856.pdf; ComponentLink2Description: LP38856 Web Page; ComponentLink2URL: http://www.national.com/pf/LP/LP38856.html; ComponentLink3Description: TS5B Package Page; ComponentLink3URL: http://www.national.com/packaging/folders/ts5b.html
footprint TS5B_N (D2-PAK, 6-Leads, Body 8.6x10.2mm, Pitch 1.7mm, Lead Span 14.1mm, IPC Medium Density)
footprint TS5B_L (D2-PAK, 6-Leads, Body 8.6x10.2mm, Pitch 1.7mm, Lead Span 14.1mm, IPC High Density)
footprint TS5B_M (D2-PAK, 6-Leads, Body 8.6x10.2mm, Pitch 1.7mm, Lead Span 14.1mm, IPC Low Density)
pins: 1 EN (in), 2 IN (power), 3 GND (power), 4 OUT (power), 5 BIAS (in), 6 TAB (power)

## LP38856S-1.2
designator U?
3A Fast-Response High-Accuracy LDO Linear Regulator with Enable; PartNumber: LP38856S-1.2; Manufacturer: National Semiconductor; CompType: LDO IC; PackageTopMarking: NSUZXYTTE#*LP38856S*1.2; Published: 4-Dec-2008; DatasheetVersion: Dec-2006; PackageVersion: revD, Apr-2005; PackageReference: TS5B; Publisher: Altium Limited; PackageDescription: TO-263, Molded, .400 x .390 x .180in, 5 Lead, .067in Pitch, Surface Mount; RoHS: Y; PinCount: 5; DigiKeyPartNumber: LP38856S-1.2-ND; Code_JEDEC: MO-169-AB; ComponentLink1Description: LP38856 Datasheet; ComponentLink1URL: http://www.national.com/ds/LP/LP38856.pdf; ComponentLink2Description: LP38856 Web Page; ComponentLink2URL: http://www.national.com/pf/LP/LP38856.html; ComponentLink3Description: TS5B Package Page; ComponentLink3URL: http://www.national.com/packaging/folders/ts5b.html
footprint TS5B_N (D2-PAK, 6-Leads, Body 8.6x10.2mm, Pitch 1.7mm, Lead Span 14.1mm, IPC Medium Density)
footprint TS5B_L (D2-PAK, 6-Leads, Body 8.6x10.2mm, Pitch 1.7mm, Lead Span 14.1mm, IPC High Density)
footprint TS5B_M (D2-PAK, 6-Leads, Body 8.6x10.2mm, Pitch 1.7mm, Lead Span 14.1mm, IPC Low Density)
pins: 1 EN (in), 2 IN (power), 3 GND (power), 4 OUT (power), 5 BIAS (in), 6 TAB (power)

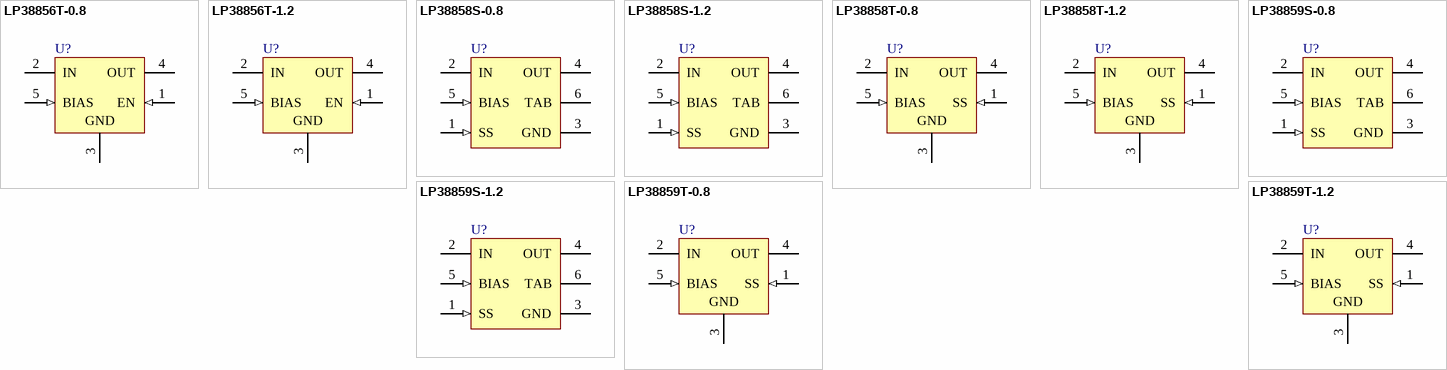
[diagram p30: symbols LP38856T-0.8 to LP38859T-1.2]

## LP38856T-0.8
designator U?
3A Fast-Response High-Accuracy LDO Linear Regulator with Enable; PartNumber: LP38856T-0.8; Manufacturer: National Semiconductor; CompType: LDO IC; PackageTopMarking: NSUZXYTTE#*LP38856T*0.8; Published: 4-Dec-2008; DatasheetVersion: Dec-2006; PackageVersion: revA, Oct-1989; PackageReference: T05D; Publisher: Altium Limited; PackageDescription: TO-220, Molded, Stagger Bend, 5 Lead; RoHS: Y; PinCount: 5; DigiKeyPartNumber: LP38856T-0.8-ND; ComponentLink1Description: LP38856 Datasheet; ComponentLink1URL: http://www.national.com/ds/LP/LP38856.pdf; ComponentLink2Description: LP38856 Web Page; ComponentLink2URL: http://www.national.com/pf/LP/LP38856.html; ComponentLink3Description: T05D Package Page; ComponentLink3URL: http://www.national.com/packaging/folders/t05d.html
footprint T05D (TO, Thru-Hole, Vertical, Heatsink Mounted; 5 Bent Staggered Leads; Pitch 1.7 mm)
pins: 1 EN (in), 2 IN (power), 3 GND (power), 4 OUT (power), 5 BIAS (in)

## LP38856T-1.2
designator U?
3A Fast-Response High-Accuracy LDO Linear Regulator with Enable; PartNumber: LP38856T-1.2; Manufacturer: National Semiconductor; CompType: LDO IC; PackageTopMarking: NSUZXYTTE#*LP38856T*1.2; Published: 4-Dec-2008; DatasheetVersion: Dec-2006; PackageVersion: revA, Oct-1989; PackageReference: T05D; Publisher: Altium Limited; PackageDescription: TO-220, Molded, Stagger Bend, 5 Lead; RoHS: Y; PinCount: 5; DigiKeyPartNumber: LP38856T-1.2-ND; ComponentLink1Description: LP38856 Datasheet; ComponentLink1URL: http://www.national.com/ds/LP/LP38856.pdf; ComponentLink2Description: LP38856 Web Page; ComponentLink2URL: http://www.national.com/pf/LP/LP38856.html; ComponentLink3Description: T05D Package Page; ComponentLink3URL: http://www.national.com/packaging/folders/t05d.html
footprint T05D (TO, Thru-Hole, Vertical, Heatsink Mounted; 5 Bent Staggered Leads; Pitch 1.7 mm)
pins: 1 EN (in), 2 IN (power), 3 GND (power), 4 OUT (power), 5 BIAS (in)

## LP38858S-0.8
designator U?
1.5A Fast-Response High-Accuracy LDO Linear Regulator with Soft-Start; PartNumber: LP38858S-0.8; Manufacturer: National Semiconductor; CompType: LDO IC; PackageTopMarking: NSUZXYTTE#*LP38858S*-0.8; Published: 4-Dec-2008; DatasheetVersion: Nov-2006; PackageVersion: revD, Apr-2005; PackageReference: TS5B; Publisher: Altium Limited; PackageDescription: TO-263, Molded, .400 x .390 x .180in, 5 Lead, .067in Pitch, Surface Mount; RoHS: Y; PinCount: 5; DigiKeyPartNumber: LP38858S-0.8-ND; Code_JEDEC: MO-169-AB; ComponentLink1Description: LP38858 Datasheet; ComponentLink1URL: http://www.national.com/ds/LP/LP38858.pdf; ComponentLink2Description: LP38858 Web Page; ComponentLink2URL: http://www.national.com/pf/LP/LP38858.html; ComponentLink3Description: TS5B Package Page; ComponentLink3URL: http://www.national.com/packaging/folders/ts5b.html
footprint TS5B_N (D2-PAK, 6-Leads, Body 8.6x10.2mm, Pitch 1.7mm, Lead Span 14.1mm, IPC Medium Density)
footprint TS5B_L (D2-PAK, 6-Leads, Body 8.6x10.2mm, Pitch 1.7mm, Lead Span 14.1mm, IPC High Density)
footprint TS5B_M (D2-PAK, 6-Leads, Body 8.6x10.2mm, Pitch 1.7mm, Lead Span 14.1mm, IPC Low Density)
pins: 1 SS (in), 2 IN (power), 3 GND (power), 4 OUT (power), 5 BIAS (in), 6 TAB (power)

## LP38858S-1.2
designator U?
1.5A Fast-Response High-Accuracy LDO Linear Regulator with Soft-Start; PartNumber: LP38858S-1.2; Manufacturer: National Semiconductor; CompType: LDO IC; PackageTopMarking: NSUZXYTTE#*LP38858S*-1.2; Published: 4-Dec-2008; DatasheetVersion: Nov-2006; PackageVersion: revD, Apr-2005; PackageReference: TS5B; Publisher: Altium Limited; PackageDescription: TO-263, Molded, .400 x .390 x .180in, 5 Lead, .067in Pitch, Surface Mount; RoHS: Y; PinCount: 5; DigiKeyPartNumber: LP38858S-1.2-ND; Code_JEDEC: MO-169-AB; ComponentLink1Description: LP38858 Datasheet; ComponentLink1URL: http://www.national.com/ds/LP/LP38858.pdf; ComponentLink2Description: LP38858 Web Page; ComponentLink2URL: http://www.national.com/pf/LP/LP38858.html; ComponentLink3Description: TS5B Package Page; ComponentLink3URL: http://www.national.com/packaging/folders/ts5b.html
footprint TS5B_N (D2-PAK, 6-Leads, Body 8.6x10.2mm, Pitch 1.7mm, Lead Span 14.1mm, IPC Medium Density)
footprint TS5B_L (D2-PAK, 6-Leads, Body 8.6x10.2mm, Pitch 1.7mm, Lead Span 14.1mm, IPC High Density)
footprint TS5B_M (D2-PAK, 6-Leads, Body 8.6x10.2mm, Pitch 1.7mm, Lead Span 14.1mm, IPC Low Density)
pins: 1 SS (in), 2 IN (power), 3 GND (power), 4 OUT (power), 5 BIAS (in), 6 TAB (power)

## LP38858T-0.8
designator U?
1.5A Fast-Response High-Accuracy LDO Linear Regulator with Soft-Start; PartNumber: LP38858T-0.8; Manufacturer: National Semiconductor; CompType: LDO IC; PackageTopMarking: NSUZXYTTE#*LP38858T*-0.8; Published: 4-Dec-2008; DatasheetVersion: Nov-2006; PackageVersion: revA, Oct-1989; PackageReference: T05D; Publisher: Altium Limited; PackageDescription: TO-220, Molded, Stagger Bend, 5 Lead; RoHS: Y; PinCount: 5; DigiKeyPartNumber: LP38858T-0.8-ND; ComponentLink1Description: LP38858 Datasheet; ComponentLink1URL: http://www.national.com/ds/LP/LP38858.pdf; ComponentLink2Description: LP38858 Web Page; ComponentLink2URL: http://www.national.com/pf/LP/LP38858.html; ComponentLink3Description: T05D Package Page; ComponentLink3URL: http://www.national.com/packaging/folders/t05d.html
footprint T05D (TO, Thru-Hole, Vertical, Heatsink Mounted; 5 Bent Staggered Leads; Pitch 1.7 mm)
pins: 1 SS (in), 2 IN (power), 3 GND (power), 4 OUT (power), 5 BIAS (in)

## LP38858T-1.2
designator U?
1.5A Fast-Response High-Accuracy LDO Linear Regulator with Soft-Start; PartNumber: LP38858T-1.2; Manufacturer: National Semiconductor; CompType: LDO IC; PackageTopMarking: NSUZXYTTE#*LP38858T*-1.2; Published: 4-Dec-2008; DatasheetVersion: Nov-2006; PackageVersion: revA, Oct-1989; PackageReference: T05D; Publisher: Altium Limited; PackageDescription: TO-220, Molded, Stagger Bend, 5 Lead; RoHS: Y; PinCount: 5; DigiKeyPartNumber: LP38858T-1.2-ND; ComponentLink1Description: LP38858 Datasheet; ComponentLink1URL: http://www.national.com/ds/LP/LP38858.pdf; ComponentLink2Description: LP38858 Web Page; ComponentLink2URL: http://www.national.com/pf/LP/LP38858.html; ComponentLink3Description: T05D Package Page; ComponentLink3URL: http://www.national.com/packaging/folders/t05d.html
footprint T05D (TO, Thru-Hole, Vertical, Heatsink Mounted; 5 Bent Staggered Leads; Pitch 1.7 mm)
pins: 1 SS (in), 2 IN (power), 3 GND (power), 4 OUT (power), 5 BIAS (in)

## LP38859S-0.8
designator U?
3A Fast-Response High-Accuracy LDO Linear Regulator with Soft-Start; PartNumber: LP38859S-0.8; Manufacturer: National Semiconductor; CompType: LDO IC; PackageTopMarking: NSUZXYTTE#*LP38859S*-0.8; Published: 4-Dec-2008; DatasheetVersion: Nov-2006; PackageVersion: revD, Apr-2005; PackageReference: TS5B; Publisher: Altium Limited; PackageDescription: TO-263, Molded, .400 x .390 x .180in, 5 Lead, .067in Pitch, Surface Mount; RoHS: Y; PinCount: 5; DigiKeyPartNumber: LP38859S-0.8-ND; Code_JEDEC: MO-169-AB; ComponentLink1Description: LP38859 Datasheet; ComponentLink1URL: http://www.national.com/ds/LP/LP38859.pdf; ComponentLink2Description: LP38859 Web Page; ComponentLink2URL: http://www.national.com/pf/LP/LP38859.html; ComponentLink3Description: TS5B Package Page; ComponentLink3URL: http://www.national.com/packaging/folders/ts5b.html
footprint TS5B_N (D2-PAK, 6-Leads, Body 8.6x10.2mm, Pitch 1.7mm, Lead Span 14.1mm, IPC Medium Density)
footprint TS5B_L (D2-PAK, 6-Leads, Body 8.6x10.2mm, Pitch 1.7mm, Lead Span 14.1mm, IPC High Density)
footprint TS5B_M (D2-PAK, 6-Leads, Body 8.6x10.2mm, Pitch 1.7mm, Lead Span 14.1mm, IPC Low Density)
pins: 1 SS (in), 2 IN (power), 3 GND (power), 4 OUT (power), 5 BIAS (in), 6 TAB (power)

## LP38859S-1.2
designator U?
3A Fast-Response High-Accuracy LDO Linear Regulator with Soft-Start; PartNumber: LP38859S-1.2; Manufacturer: National Semiconductor; CompType: LDO IC; PackageTopMarking: NSUZXYTTE#*LP38859S*-1.2; Published: 4-Dec-2008; DatasheetVersion: Nov-2006; PackageVersion: revD, Apr-2005; PackageReference: TS5B; Publisher: Altium Limited; PackageDescription: TO-263, Molded, .400 x .390 x .180in, 5 Lead, .067in Pitch, Surface Mount; RoHS: Y; PinCount: 5; DigiKeyPartNumber: LP38859S-1.2-ND; Code_JEDEC: MO-169-AB; ComponentLink1Description: LP38859 Datasheet; ComponentLink1URL: http://www.national.com/ds/LP/LP38859.pdf; ComponentLink2Description: LP38859 Web Page; ComponentLink2URL: http://www.national.com/pf/LP/LP38859.html; ComponentLink3Description: TS5B Package Page; ComponentLink3URL: http://www.national.com/packaging/folders/ts5b.html
footprint TS5B_N (D2-PAK, 6-Leads, Body 8.6x10.2mm, Pitch 1.7mm, Lead Span 14.1mm, IPC Medium Density)
footprint TS5B_L (D2-PAK, 6-Leads, Body 8.6x10.2mm, Pitch 1.7mm, Lead Span 14.1mm, IPC High Density)
footprint TS5B_M (D2-PAK, 6-Leads, Body 8.6x10.2mm, Pitch 1.7mm, Lead Span 14.1mm, IPC Low Density)
pins: 1 SS (in), 2 IN (power), 3 GND (power), 4 OUT (power), 5 BIAS (in), 6 TAB (power)

## LP38859T-0.8
designator U?
3A Fast-Response High-Accuracy LDO Linear Regulator with Soft-Start; PartNumber: LP38859T-0.8; Manufacturer: National Semiconductor; CompType: LDO IC; PackageTopMarking: NSUZXYTTE#*LP38859T*-0.8; Published: 4-Dec-2008; DatasheetVersion: Nov-2006; PackageVersion: revA, Oct-1989; PackageReference: T05D; Publisher: Altium Limited; PackageDescription: TO-220, Molded, Stagger Bend, 5 Lead; RoHS: Y; PinCount: 5; DigiKeyPartNumber: LP38859T-0.8-ND; ComponentLink1Description: LP38859 Datasheet; ComponentLink1URL: http://www.national.com/ds/LP/LP38859.pdf; ComponentLink2Description: LP38859 Web Page; ComponentLink2URL: http://www.national.com/pf/LP/LP38859.html; ComponentLink3Description: T05D Package Page; ComponentLink3URL: http://www.national.com/packaging/folders/t05d.html
footprint T05D (TO, Thru-Hole, Vertical, Heatsink Mounted; 5 Bent Staggered Leads; Pitch 1.7 mm)
pins: 1 SS (in), 2 IN (power), 3 GND (power), 4 OUT (power), 5 BIAS (in)

## LP38859T-1.2
designator U?
3A Fast-Response High-Accuracy LDO Linear Regulator with Soft-Start; PartNumber: LP38859T-1.2; Manufacturer: National Semiconductor; CompType: LDO IC; PackageTopMarking: NSUZXYTTE#*LP38859T*-1.2; Published: 4-Dec-2008; DatasheetVersion: Nov-2006; PackageVersion: revA, Oct-1989; PackageReference: T05D; Publisher: Altium Limited; PackageDescription: TO-220, Molded, Stagger Bend, 5 Lead; RoHS: Y; PinCount: 5; DigiKeyPartNumber: LP38859T-1.2-ND; ComponentLink1Description: LP38859 Datasheet; ComponentLink1URL: http://www.national.com/ds/LP/LP38859.pdf; ComponentLink2Description: LP38859 Web Page; ComponentLink2URL: http://www.national.com/pf/LP/LP38859.html; ComponentLink3Description: T05D Package Page; ComponentLink3URL: http://www.national.com/packaging/folders/t05d.html
footprint T05D (TO, Thru-Hole, Vertical, Heatsink Mounted; 5 Bent Staggered Leads; Pitch 1.7 mm)
pins: 1 SS (in), 2 IN (power), 3 GND (power), 4 OUT (power), 5 BIAS (in)